# EAGLE library part MAX3232CSE (library futz)
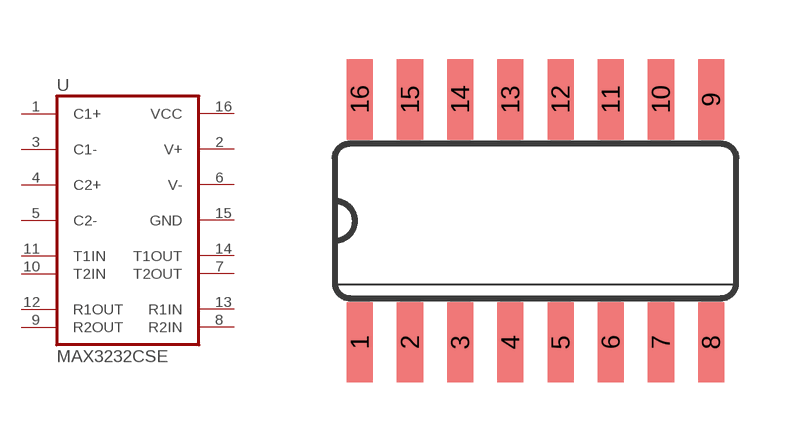
[diagram p1: symbol with the pads of MAX3232CSE; footprint MAX3232CSE]

Designator prefix -

## MAX3232CSE  [MAX3232CSE]
1  C1+  pas
2  V+  pas
3  C1-  pas
4  C2+  pas
5  C2-  pas
6  V-  pas
7  T2OUT  out
8  R2IN  in
9  R2OUT  out
10  T2IN  in
11  T1IN  in
12  R1OUT  out
13  R1IN  in
14  T1OUT  out
15  GND  pwr
16  VCC  pwr

## Footprint MAX3232CSE (pad centres in mm)
MAX3232CSE SOIC 150
smd 0.66 x 2.032: 1 -4.445,-3.073; 2 -3.175,-3.073; 3 -1.905,-3.073; 4 -0.635,-3.073; 5 0.635,-3.073; 6 1.905,-3.073; 7 3.175,-3.073; 8 4.445,-3.073; 9 4.445,3.073; 10 3.175,3.073; 11 1.905,3.073; 12 0.635,3.073; 13 -0.635,3.073; 14 -1.905,3.073; 15 -3.175,3.073; 16 -4.445,3.073